# Altium schematic symbol library BCDto7SegDriver.SchLib: 1 symbol
Pins are listed as number, name and electrical type; pins without a type are passive.

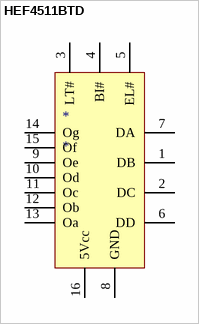
[diagram p0: symbol HEF4511BTD]

## HEF4511BTD
designator *
Digikey part Number: 568-3125-5-ND
footprint SOIC127P600-8N
pins: 1 DB, 2 DC, 3 LT#, 4 BI#, 5 EL#, 6 DD, 7 DA, 8 GND, 9 Oe, 10 Od, 11 Oc, 12 Ob, 13 Oa, 14 Og, 15 Of, 16 5Vcc